# EAGLE library part MTCH105-I_ST (library Deegou_IC)
MTCH105-I/ST, Capacitive Touch Screen Controller Simple I/O, 14-Pin TSSOP Source: Datasheet <https://componentsearchengine.com/Datasheets/2/MTCH105-I_ST.pdf>
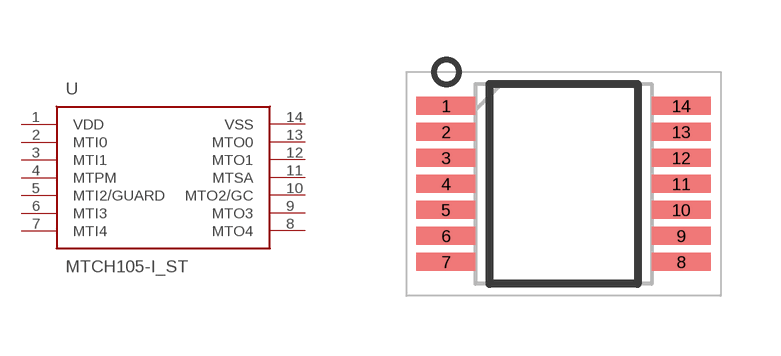
[diagram p37: symbol with the pads of SOP65P640X120-14N; footprint SOP65P640X120-14N]

Designator prefix U

## MTCH105-I_ST (DESCRIPTION: MTCH105-I/ST, Capacitive Touch Screen Controller Simple I/O, 14-Pin TSSOP; HEIGHT: 1.2mm; MANUFACTURER_NAME: Microchip; MANUFACTURER_PART_NUMBER: MTCH105-I/ST; MOUSER_PART_NUMBER: 579-MTCH105-I/ST; MOUSER_PRICE-STOCK: https://www.mouser.com/Search/Refine.aspx?Keyword=579-MTCH105-I%2FST; RS_PART_NUMBER: 1654088; RS_PRICE-STOCK: http://uk.rs-online.com/web/p/products/1654088)  [SOP65P640X120-14N]
1  VDD
2  MTI0
3  MTI1
4  MTPM
5  MTI2/GUARD
6  MTI3
7  MTI4
8  MTO4
9  MTO3
10  MTO2/GC
11  MTSA
12  MTO1
13  MTO0
14  VSS

## Footprint SOP65P640X120-14N (pad centres in mm)
PIC16F1825-I/ST
smd 1.475 x 0.45: 1 -2.938,1.95; 2 -2.938,1.3; 3 -2.938,0.65; 4 -2.938,0; 5 -2.938,-0.65; 6 -2.938,-1.3; 7 -2.938,-1.95; 8 2.938,-1.95; 9 2.938,-1.3; 10 2.938,-0.65; 11 2.938,0; 12 2.938,0.65; 13 2.938,1.3; 14 2.938,1.95